# EAGLE library part AD7303B (library FreeSmartEEG)
+2.7 V to +5.5 V, Serial Input, Dual Voltage Output 8-Bit DAC Source: http://www.analog.com/UploadedFiles/Data_Sheets/AD7303.pdf
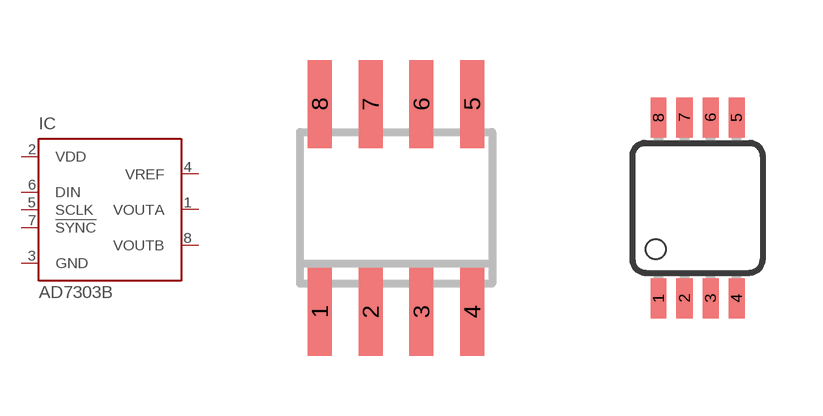
[diagram p55: symbol with the pads of SO8; footprints SO8, MSOP08]

Designator prefix IC

## AD7303BR (MPN: AD7303BRZ; OC_FARNELL: 1838896; OC_NEWARK: 19M8835)  [SO8]
1  VOUTA  out
2  VDD  pwr
3  GND  pwr
4  VREF  pas
5  SCLK  in
6  DIN  in
7  !SYNC  in
8  VOUTB  out

## AD7303BRM (MF: ALTERA CORPORATION; MPN: AD7303BRMZ; OC_FARNELL: 1464525; OC_NEWARK: 59K4694)  [MSOP08]
Pads as for SO8

## AD7303BN (MPN: AD7303BNZ; OC_FARNELL: 1079413; OC_NEWARK: 19M0854)  [DIL08]
Pads as for SO8

## Footprint SO8 (pad centres in mm)
8-Lead Small Outline IC (SO-8) Source: http://www.analog.com/UploadedFiles/Data_Sheets/703465986AD8611_2_0.pdf
smd 0.6 x 2.2: 1 -1.905,-2.6; 2 -0.635,-2.6; 3 0.635,-2.6; 4 1.905,-2.6; 5 1.905,2.6; 6 0.635,2.6; 7 -0.635,2.6; 8 -1.905,2.6

## Footprint MSOP08 (pad centres in mm)
8-Lead micro SO (RM-8) Source: http://www.analog.com/UploadedFiles/Data_Sheets/703465986AD8611_2_0.pdf
smd 0.4 x 1: 1 -0.976,-2.263; 2 -0.326,-2.263; 3 0.324,-2.263; 4 0.974,-2.263; 5 0.974,2.262; 6 0.324,2.262; 7 -0.326,2.262; 8 -0.976,2.262

## Footprint DIL08 (pad centres in mm)
Dual In Line Package
drill 0.813 long: 1 -3.81,-3.81; 2 -1.27,-3.81; 3 1.27,-3.81; 4 3.81,-3.81; 5 3.81,3.81; 6 1.27,3.81; 7 -1.27,3.81; 8 -3.81,3.81